# EAGLE library part AT25512N-SH-T (library circuit_tree)
IC
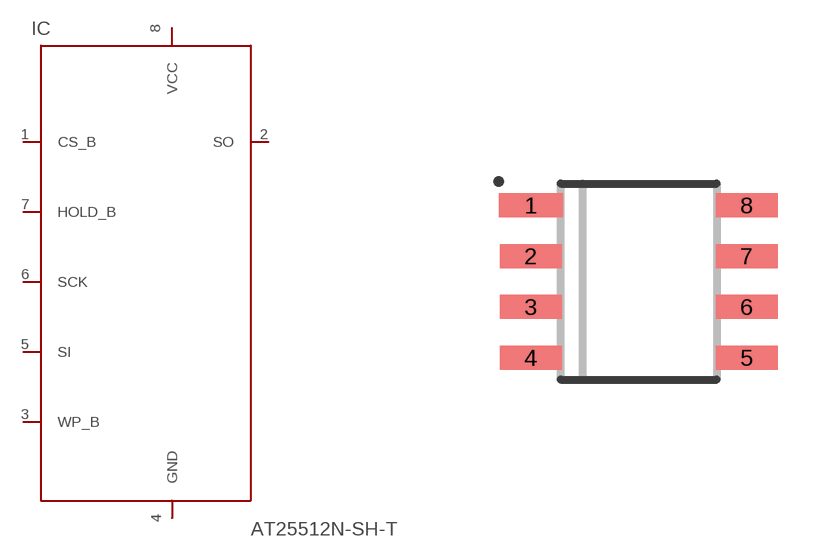
[diagram p3: symbol with the pads of SOIC-8; footprint SOIC-8]

Designator prefix IC

## AT25512N-SH-T  [SOIC-8]
1  CS_B  pas
2  SO  pas
3  WP_B  pas
4  GND  pas
5  SI  pas
6  SCK  pas
7  HOLD_B  pas
8  VCC  pas

## Footprint SOIC-8 (pad centres in mm)
smd 1.6 x 0.6: 1 -2.7,1.905
smd 1.55 x 0.6: 2 -2.7,0.635; 3 -2.7,-0.635; 4 -2.7,-1.905; 5 2.7,-1.905; 6 2.7,-0.635; 7 2.7,0.635; 8 2.7,1.905